# Altium schematic symbol library TPS61032PWP.SchLib: 1 symbol
Pins are listed as number, name and electrical type; pins without a type are passive.

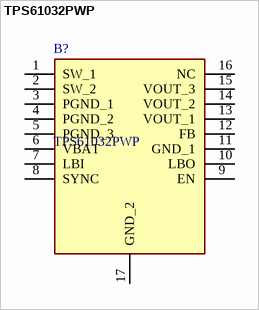
[diagram p0: symbol TPS61032PWP]

## TPS61032PWP
designator B?
5-V Output, 1-A, 96% Efficient Boost Converter w/20uA Iq in TSSOP-16; Manufacturer_Name: Texas Instruments; Geometry.Height: 1.2mm; Mouser Part Number: 595-TPS61032PWP; Mouser Price/Stock: https://www.mouser.co.uk/ProductDetail/Texas-Instruments/TPS61032PWP?qs=Gse6rAGbi7%252B07XodIBvuHQ%3D%3D; Manufacturer_Part_Number: TPS61032PWP; Datasheet Link: http://www.ti.com/lit/ds/symlink/tps61030.pdf
footprint SOP65P640X120-17N
pins: 1 SW_1, 2 SW_2, 3 PGND_1, 4 PGND_2, 5 PGND_3, 6 VBAT, 7 LBI, 8 SYNC, 9 EN, 10 LBO, 11 GND_1, 12 FB, 13 VOUT_1, 14 VOUT_2, 15 VOUT_3, 16 NC, 17 GND_2